# EAGLE library part TPS2001C_DGK_8 (library Texas Instruments)
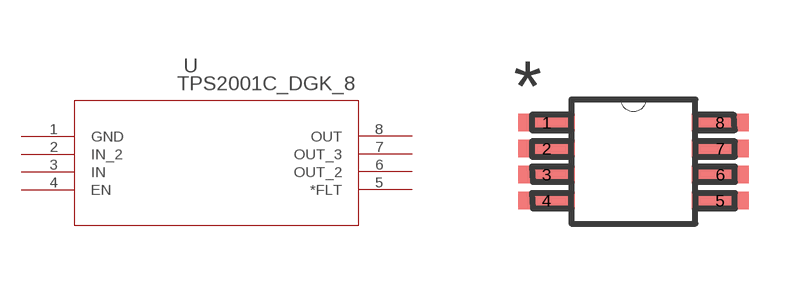
[diagram p30: symbol with the pads of DGK8; footprint DGK8]

Designator prefix U

## TPS2001C_DGK_8 (DATASHEETURL: http://www.ti.com/lit/gpn/TPS2001C; DESCRIPTION: Single Channel, Current-Limited USB Power Distribution Switch; FAMILY_NAME: USB POWER SWITCH; GENERIC_PART_NUMBER: TPS2001C; INDUSTRY_STD_PKG_TYPE: MSOP; MANUFACTURER: Texas Instruments; MANUFACTURER_PART_NUMBER: tps2001c_dgk_8; PACKAGE_DESIGNATOR: DGK; PIN_COUNT: 8; VENDOR: Texas Instruments)  [DGK8]
1  GND  pwr
2  IN_2  in
3  IN  in
4  EN  pas
5  *FLT  pas
6  OUT_2  out
7  OUT_3  out
8  OUT  out

## Footprint DGK8 (pad centres in mm)
smd 1.422 x 0.432: 1 -2.172,0.975; 2 -2.172,0.325; 3 -2.172,-0.325; 4 -2.172,-0.975; 5 2.172,-0.975; 6 2.172,-0.325; 7 2.172,0.325; 8 2.172,0.975